# Altium footprint library footprints.PcbLib: 3 footprints
Each footprint in its own frame and in the unit in brackets; x right, y up, seen from the top. Pads: shape width x height; smd on the part's side, far side on the other; paste and mask are expansions set on the pad; w line width, h text height; cw(c..) or ccw(c..) is an arc to the next point about the centre after c.
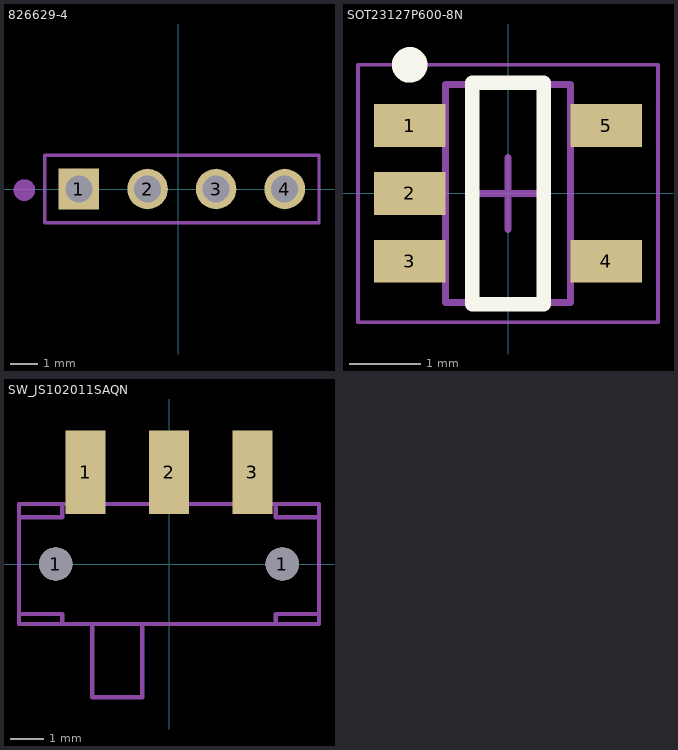
[diagram p0: the footprints below, top view; thin cyan lines are the x and y axes]

## 826629-4 [mm] "Pin 4 pos footprint"
pads (4):
  rect 1.5x1.5 hole 1: 1(-3.683,0)
  round 1.5 hole 1: 2(-1.143,0) 3(1.397,0) 4(3.937,0)
Mechanical 2:
  circle w0.4: c-5.703,-0.04 r0.2
  lines w0.127: -4.953,-1.25 -4.953,1.25 5.207,1.25 5.207,-1.25 -4.953,-1.25
Mechanical 8:
  circle w0.4: c-3.703,-0.04 r0.2
  lines w0.127: -4.953,-1.25 -4.953,1.25 5.207,1.25 5.207,-1.25 -4.953,-1.25

## SOT23127P600-8N [mm]
height 1.45
pads (5):
  rect 1x0.6 smd: 1(-1.375,0.95) 2(-1.375,0) 3(-1.375,-0.95) 4(1.375,-0.95) 5(1.375,0.95)
Top Overlay:
  circle w0.25: c-1.375,1.8 r0.125
  lines w0.2: -0.5,-1.55 -0.5,1.55 0.5,1.55 0.5,-1.55 -0.5,-1.55
Mechanical 13:
  lines w0.1: -0.875,-1.525 0.875,-1.525 0.875,1.525 -0.875,1.525 -0.875,-1.525
Mechanical 15:
  lines w0.05: -2.1,-1.8 2.1,-1.8 2.1,1.8 -2.1,1.8 -2.1,-1.8
  lines w0.1: -0.5,0 0.5,0 ; 0,-0.5 0,0.5
3D body: height 1.45, standoff 0, extent -0.875,-1.525 0.875,1.525

## SW_JS102011SAQN [mm]
pads (5):
  round 1 hole 1: 1(-3.4,0) 1(3.4,0)
  rect 1.2x2.5 smd: 1(-2.5,2.75) 2(0,2.75) 3(2.5,2.75)
Mechanical 2:
  lines w0.127: -4.5,1.8 -4.5,-1.8 4.5,-1.8 4.5,1.8
Mechanical 8:
  region: 2.204,1.803 2.204,3.7 2.8,3.7 2.8,1.803
  region: -0.3,1.8 -0.3,3.7 0.3,3.7 0.3,1.8
  region: -2.801,1.801 -2.801,3.7 -2.2,3.7 -2.2,1.801
  region: -2.801,1.801 -2.801,3.7 -2.2,3.7 -2.2,1.801
  lines w0.127: -4.5,-1.5 -3.2,-1.5 -3.2,-1.8 ; -4.5,1.4 -3.2,1.4 -3.2,1.7 ; -4.5,1.8 4.5,1.8 ; -2.3,-1.8 -2.3,-4 -0.8,-4 -0.8,-1.8 ; 3.2,-1.8 3.2,-1.5 4.5,-1.5 ; 3.2,1.7 3.2,1.4 4.5,1.4